# EAGLE library part INSECTCHIP3A_MIN (library harrison)
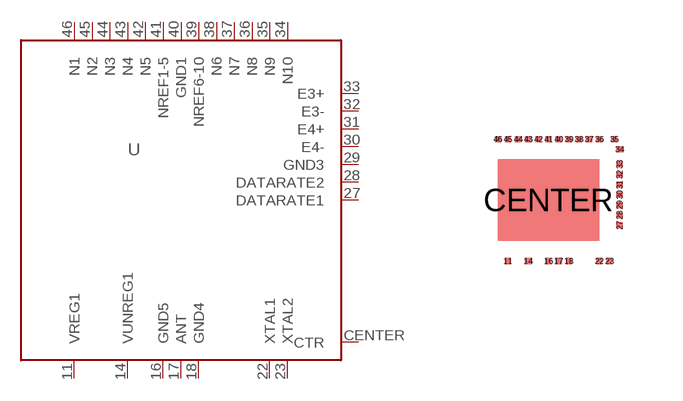
[diagram p63: symbol with the pads of INSECTCHIP3_COB_3; footprint INSECTCHIP3_COB_3]

Designator prefix U

## INSECTCHIP3A_MIN  [INSECTCHIP3_COB_3]
11  VREG1  pwr
14  VUNREG1  pwr
16  GND5  pwr
17  ANT  pas
18  GND4  pwr
22  XTAL1  pas
23  XTAL2  pas
27  DATARATE1  in
28  DATARATE2  in
29  GND3  pwr
30  E4-  in
31  E4+  in
32  E3-  in
33  E3+  in
34  N10  in
35  N9  in
36  N8  in
37  N7  in
38  N6  in
39  NREF6-10  in
40  GND1  pwr
41  NREF1-5  in
42  N5  in
43  N4  in
44  N3  in
45  N2  in
46  N1  in
CENTER  CTR  pwr

## Footprint INSECTCHIP3_COB_3 (pad centres in mm)
smd 0.152 x 0.152: 11 -1.016,-1.524; 14 -0.508,-1.524; 16 0,-1.524; 17 0.254,-1.524; 18 0.508,-1.524; 22 1.27,-1.524; 23 1.524,-1.524; 27 1.778,-0.635; 28 1.778,-0.381; 29 1.778,-0.127; 30 1.778,0.127; 31 1.778,0.381; 32 1.778,0.635; 33 1.778,0.889; 34 1.778,1.27; 35 1.651,1.524; 36 1.27,1.524; 37 1.016,1.524; 38 0.762,1.524; 39 0.508,1.524; 40 0.254,1.524; 41 0,1.524; 42 -0.254,1.524; 43 -0.508,1.524; 44 -0.762,1.524; 45 -1.016,1.524; 46 -1.27,1.524
smd 2.54 x 2.032: CENTER 0,0